# EAGLE library part NHD-C0216CIZ (library laforge)
NHD-C0216CiZ-FSW-FBW-3V3
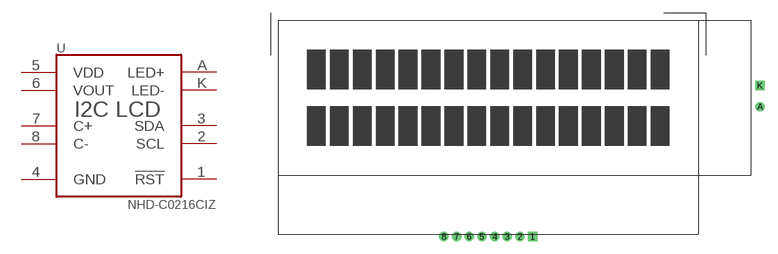
[diagram p23: symbol with the pads of NHD-C0216CIZ-FSW-FBW-3V3; footprint NHD-C0216CIZ-FSW-FBW-3V3]

Designator prefix -

## NHD-C0216CIZ (OC_DIGIKEY: NHD-C0216CZ-FSW-FBW-3V3-ND)  [NHD-C0216CIZ-FSW-FBW-3V3]
1  !RST  in
2  SCL
3  SDA
4  GND  pas
5  VDD  out
6  VOUT  pwr
7  C+  pas
8  C-  pas
A  LED+  pwr
K  LED-  pas

## Footprint NHD-C0216CIZ-FSW-FBW-3V3 (pad centres in mm)
Newhaven Display NHD-C0216CiZ-FSW-FBW-3V3
drill 0.6 square: 1 5.25,-16.4; K 32.15,1.44
drill 0.6: 2 3.75,-16.4; 3 2.25,-16.4; 4 0.75,-16.4; 5 -0.75,-16.4; 6 -2.25,-16.4; 7 -3.75,-16.4; 8 -5.25,-16.4; A 32.15,-1.06